# EAGLE library part ESP8266-12E (library PiB_radio_frequency)
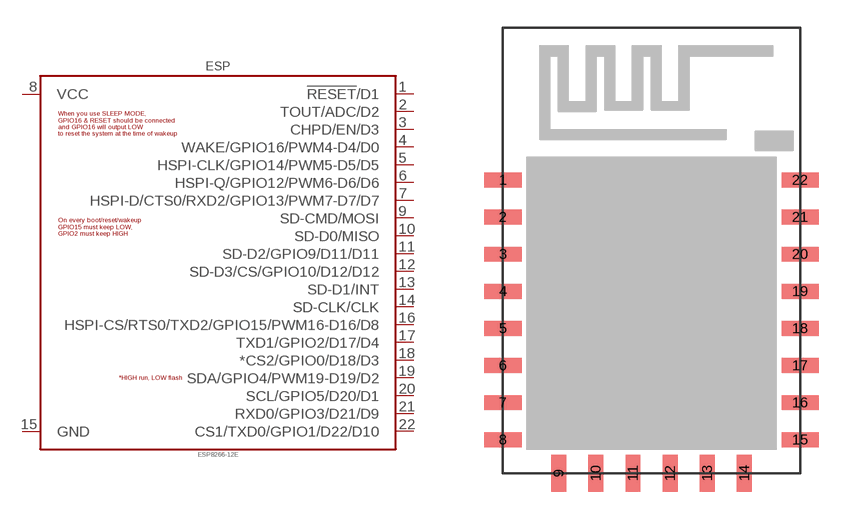
[diagram p3: symbol with the pads of ESP8266-12E; footprint ESP8266-12E]

Designator prefix ESP

## ESP8266-12E_ESP8622-12E (DATASHEET: https://www.kloppenborg.net/images/blog/esp8266/esp8266-esp12e-specs.pdf; DIST: Amazon; DISTLINK: https://www.amazon.com/Gowoops-ESP8266-Wireless-Transceiver-Development/dp/B01M4IOFIT/ref=sr_1_7?ie=UTF8&qid=1537090267&sr=8-7&keywords=esp8266+12e; DISTPN: B01M4IOFIT; MFR: Espressif Systems; MPN: ESP8266-12E; VALUE: ESP8266-12E)  [ESP8266-12E]
1  !RESET!/D1
2  TOUT/ADC/D2
3  CHPD/EN/D3
4  WAKE/GPIO16/PWM4-D4/D0
5  HSPI-CLK/GPIO14/PWM5-D5/D5
6  HSPI-Q/GPIO12/PWM6-D6/D6
7  HSPI-D/CTS0/RXD2/GPIO13/PWM7-D7/D7
8  VCC  pas
9  SD-CMD/MOSI  nc
10  SD-D0/MISO  nc
11  SD-D2/GPIO9/D11/D11  nc
12  SD-D3/CS/GPIO10/D12/D12  nc
13  SD-D1/INT  nc
14  SD-CLK/CLK  nc
15  GND  pas
16  HSPI-CS/RTS0/TXD2/GPIO15/PWM16-D16/D8
17  TXD1/GPIO2/D17/D4
18  *CS2/GPIO0/D18/D3
19  SDA/GPIO4/PWM19-D19/D2
20  SCL/GPIO5/D20/D1
21  RXD0/GPIO3/D21/D9
22  CS1/TXD0/GPIO1/D22/D10

## Footprint ESP8266-12E (pad centres in mm)
smd 2 x 0.8: 1 -8,3.8; 2 -8,1.8; 3 -8,-0.2; 4 -8,-2.2; 5 -8,-4.2; 6 -8,-6.2; 7 -8,-8.2; 8 -8,-10.2; 15 8,-10.2; 16 8,-8.2; 17 8,-6.2; 18 8,-4.2; 19 8,-2.2; 20 8,-0.2; 21 8,1.8; 22 8,3.8
smd 0.8 x 2: 9 -5,-12; 10 -3,-12; 11 -1,-12; 12 1,-12; 13 3,-12; 14 5,-12